# Altium footprint library PCB - RF FILTER - TDK 1008 4PAD.PCBLIB: 1 footprints
Each footprint in its own frame and in the unit in brackets; x right, y up, seen from the top. Pads: shape width x height; smd on the part's side, far side on the other; paste and mask are expansions set on the pad; w line width, h text height; cw(c..) or ccw(c..) is an arc to the next point about the centre after c.
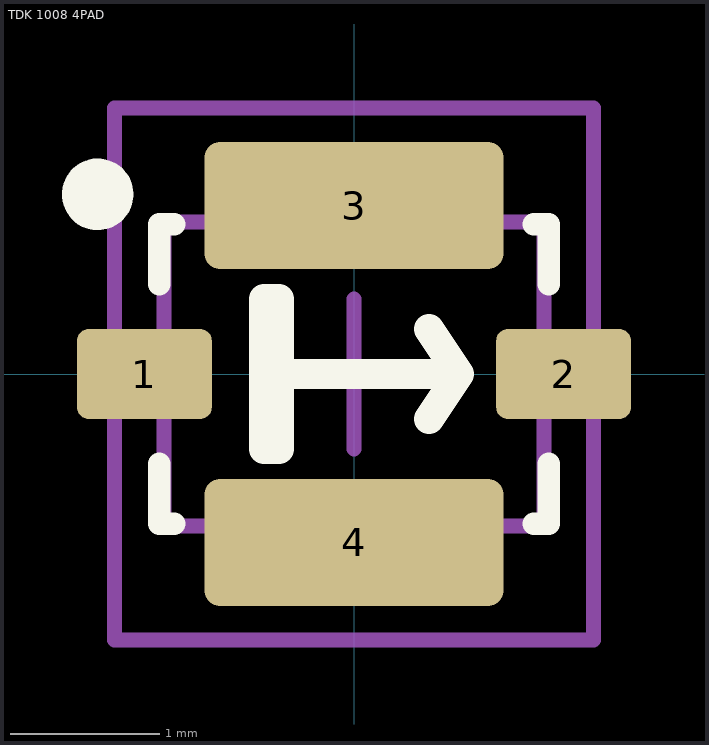
[diagram p0: the footprint, top view; thin cyan lines are the x and y axes]

## TDK 1008 4PAD [mm] "1008 4PC Pin RF Filter Chip"
height 1
pads (4):
  rrect25% 0.9x0.6 smd: 1(-1.4,0) 2(1.4,0)
  rrect25% 2x0.85 smd: 3(0,1.125) 4(0,-1.125)
Top Overlay:
  circle w0.254: c-1.712,1.2 r0.112
  lines w0.15: -1.3,-0.6 -1.3,-1 -1.2,-1 ; -1.3,0.6 -1.3,1 -1.2,1 ; 1.2,-1 1.3,-1 1.3,-0.6 ; 1.2,1 1.3,1 1.3,0.6
  lines w0.2: -0.6,0 0.7,0 ; 0.5,-0.3 0.7,0 ; 0.5,0.3 0.7,0 ; -0.6,-0.5 -0.6,0.5 -0.5,0.5 -0.5,-0.5 -0.6,-0.5
Mechanical 13:
  lines w0.1: -1.27,-1.016 1.27,-1.016 1.27,1.016 -1.27,1.016 -1.27,-1.016
Mechanical 15:
  lines w0.1: -0.5,0 0.5,0 ; 0,-0.5 0,0.5 ; -1.6,-1.775 1.6,-1.775 1.6,1.775 -1.6,1.775 -1.6,-1.775
3D body "RF Filter-1008-4PC.STEP": height 0.89, standoff -0.01, extent -1.25,-1 1.25,1